# Altium footprint library PLD2-8.PcbLib: 1 footprints
Each footprint in its own frame and in the unit in brackets; x right, y up, seen from the top. Pads: shape width x height; smd on the part's side, far side on the other; paste and mask are expansions set on the pad; w line width, h text height; cw(c..) or ccw(c..) is an arc to the next point about the centre after c.
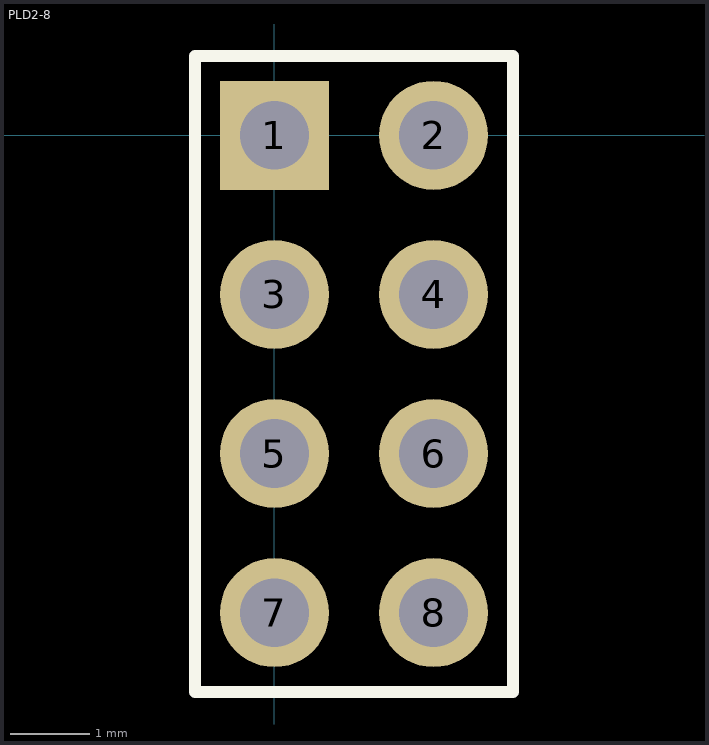
[diagram p0: the footprint, top view; thin cyan lines are the x and y axes]

## PLD2-8 [mil]
pads (8):
  rect 54x54 hole 34: 1(0,0)
  round 54 hole 34: 2(78.74,0) 3(0,-78.74) 4(78.74,-78.74) 5(0,-157.48) 6(78.74,-157.48) 7(0,-236.22) 8(78.74,-236.22)
Top Overlay:
  lines w5.91: -39.37,-275.59 118.11,-275.59 118.11,39.37 -39.37,39.37 -39.37,-275.59
Mechanical 15:
  text "'.Designator'" at -5.26,31.5 h78.74
3D body "PLD 2-8 R.STEP": height 236.22, standoff -106.3, extent -39.37,-275.58 118.11,39.38